# EAGLE library part TC2030-CC2538-BL (library connector)
Tag connect programmer for the CC2538 bootloader. The RX/TX switch happens on the programmer board, so when using this connect the TX pin to the TX pin on the CC2538 and same for the RX.
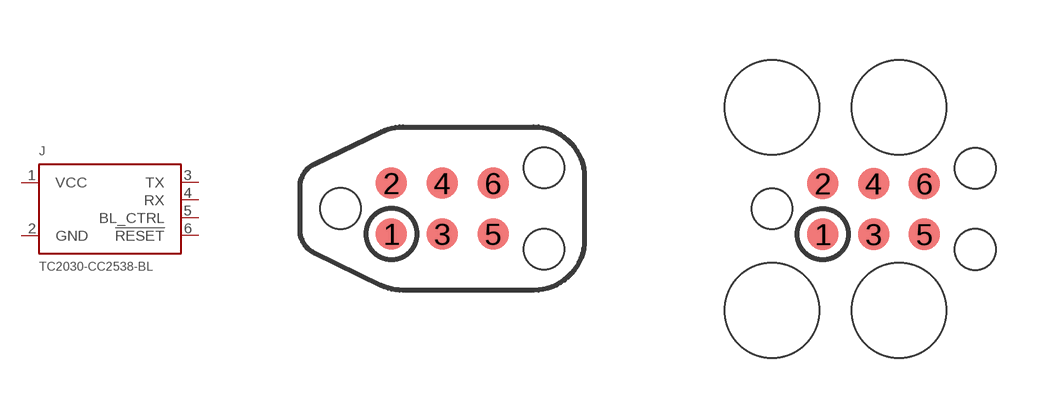
[diagram p4: symbol with the pads of TC2030-IDC-NL; footprints TC2030-IDC-NL, TC2030-IDC]

Designator prefix J

## TC2030-CC2538-BL-NL  [TC2030-IDC-NL]
1  VCC
2  GND
3  TX
4  RX
5  BL_CTRL
6  !RESET

## TC2030-CC2538-BL  [TC2030-IDC]
Pads as for TC2030-IDC-NL

## Footprint TC2030-IDC-NL (pad centres in mm)
The TC2030-IDC-NL is our "No Legs" 6-pin Plug-of-Nails Cable
smd 0.787 x 0.787: 1 -1.27,-0.635; 2 -1.27,0.635; 3 0,-0.635; 4 0,0.635; 5 1.27,-0.635; 6 1.27,0.635
hole 1.016 at -2.54,0
hole 1.016 at 2.54,1.016
hole 1.016 at 2.54,-1.016

## Footprint TC2030-IDC (pad centres in mm)
Tag Connect TC2030-IDC
smd 0.787 x 0.787: 1 -1.27,-0.635; 2 -1.27,0.635; 3 0,-0.635; 4 0,0.635; 5 1.27,-0.635; 6 1.27,0.635
hole 2.375 at -2.54,2.54
hole 2.375 at 0.635,2.54
hole 2.375 at 0.635,-2.54
hole 2.375 at -2.54,-2.54
hole 1.016 at -2.54,0
hole 1.016 at 2.54,1.016
hole 1.016 at 2.54,-1.016